# Altium schematic symbol library T510X107M020ATE035.SchLib: 1 symbol
Pins are listed as number, name and electrical type; pins without a type are passive.

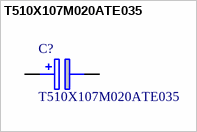
[diagram p0: symbol T510X107M020ATE035]

## T510X107M020ATE035
designator C?
T510, Tantalum, MnO2 Tantalum, Multi-Anode, 100 uF, 20%, 20 VDC, 125C, -55C, 85C, SMD, MnO2, Molded, Multiple Anodes, Low ESR, 8 % , 35 mOhms, 20 uA, 430.15 mg, 7343, 4mm, Height Max = 4.3mm, 500, 156  Weeks; Manufacturer_Name: KEMET; Manufacturer_Part_Number: T510X107M020ATE035; Mouser Part Number: 80-T510X107M20ATE35; Mouser Price/Stock: https://www.mouser.co.uk/ProductDetail/KEMET/T510X107M020ATE035?qs=YJ3ou1RtrcCVdqtn0NWXig%3D%3D; Arrow Part Number: *; Arrow Price/Stock: *; Datasheet Link: https://content.kemet.com/datasheets/KEM_T2014_T510.pdf; Geometry.Height: 4.3mm
footprint T510X
pins: 1 +, 2 -